# Altium schematic symbol library GENERIC_RX.Schlib: 1 symbol
Pins are listed as number, name and electrical type; pins without a type are passive.

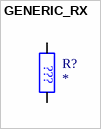
[diagram p0: symbol GENERIC_RX]

## GENERIC_RX
designator R?
pins: 1, 2
text: ???